# Altium footprint library TerminalBlock_Wuerth.PcbLib: 13 footprints
Each footprint in its own frame and in the unit in brackets; x right, y up, seen from the top. Pads: shape width x height; smd on the part's side, far side on the other; paste and mask are expansions set on the pad; w line width, h text height; cw(c..) or ccw(c..) is an arc to the next point about the centre after c.
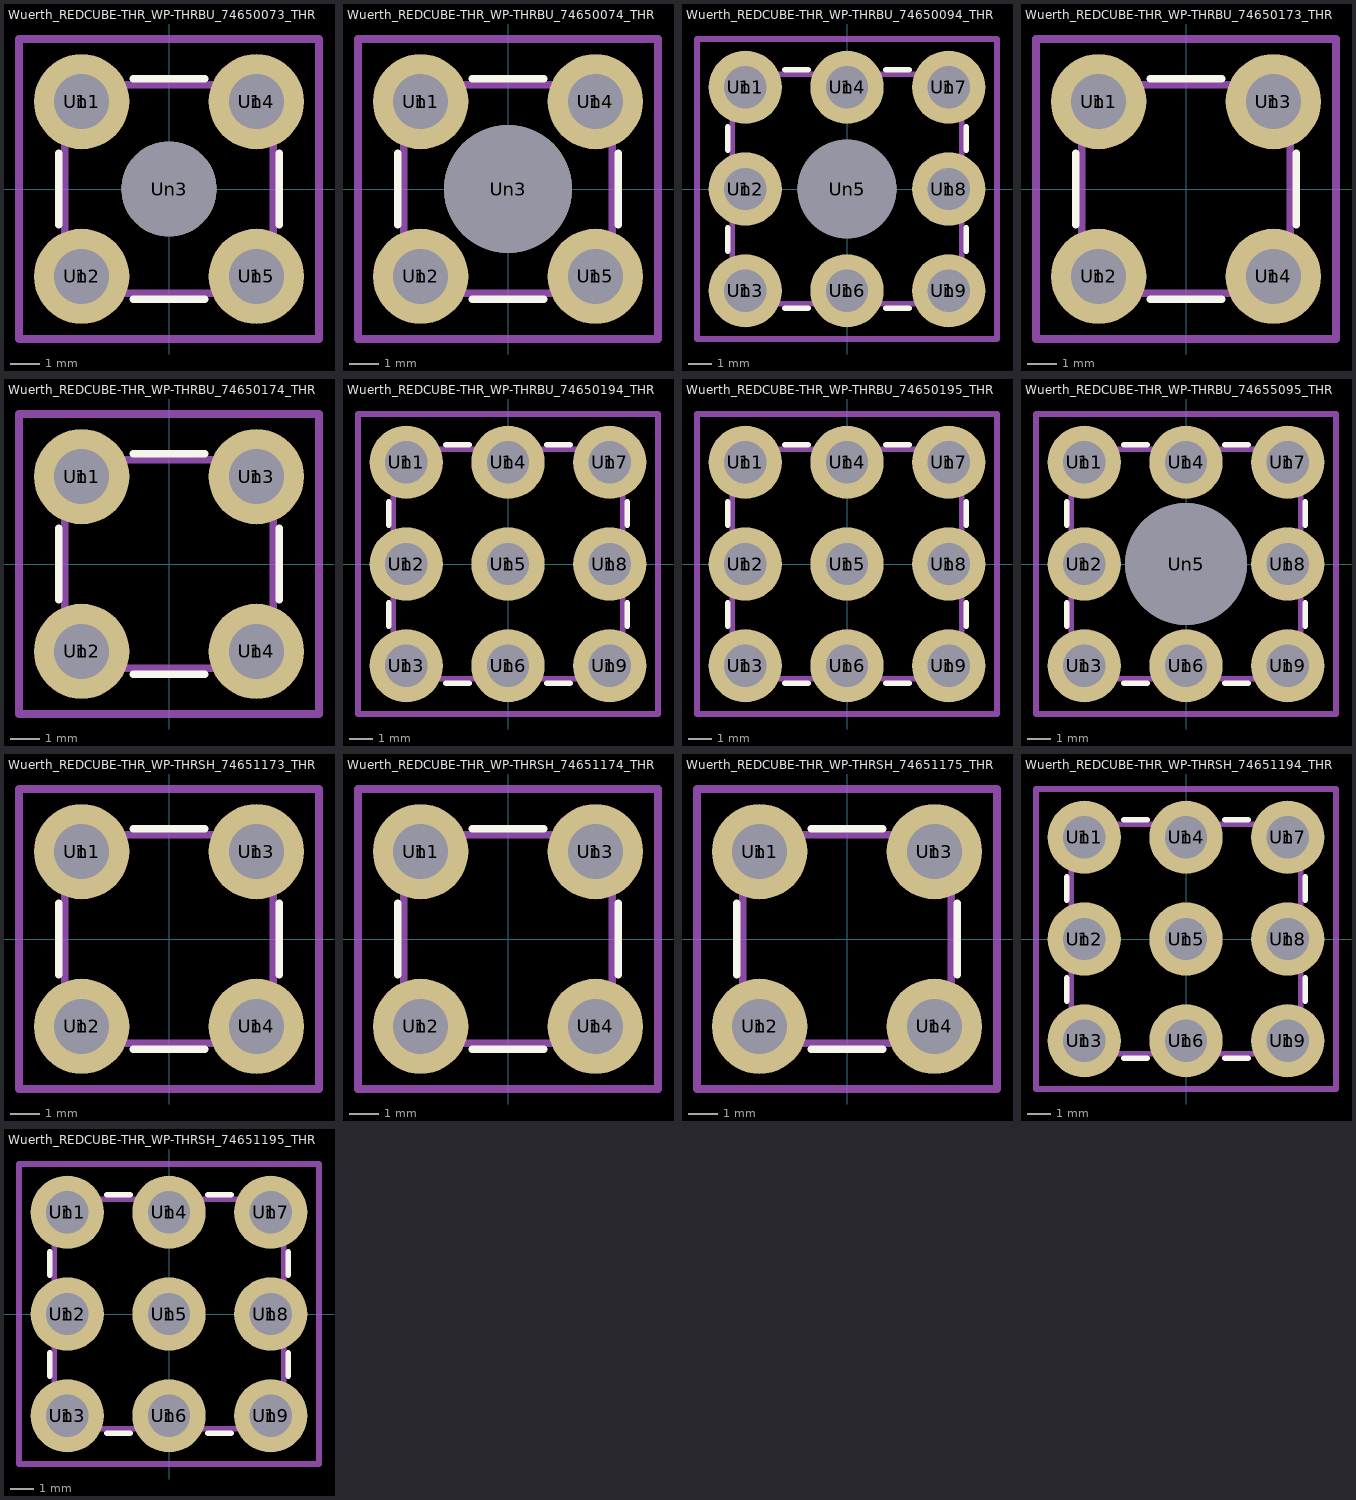
[diagram p0: the footprints below, top view; thin cyan lines are the x and y axes]

## Wuerth_REDCUBE-THR_WP-THRBU_74650073_THR [mm]
pads (9):
  round 3.2 hole 1.85: 1(-2.935,-2.935) 1(-2.935,2.935) 1(2.935,-2.935) 1(2.935,2.935)
  round 3.1 on Top Paste: Un1(-2.935,2.935) Un2(-2.935,-2.935) Un4(2.935,2.935) Un5(2.935,-2.935)
  round 3.2 hole 3.2: Un3(0,0)
F.SilkS:
  lines w0.254: -3.7,-1.2 -3.7,1.2 ; -1.2,-3.7 1.2,-3.7 ; -1.2,3.7 1.2,3.7 ; 3.7,-1.2 3.7,1.2
F.Fab:
  lines w0.254: -3.5,-3.5 -3.5,3.5 3.5,3.5 3.5,-3.5 -3.5,-3.5
  text "'.Designator'" at -4.047,-0.84 h1
F.CrtYd:
  lines w0.254: -5.04,-5.04 -5.04,5.04 5.04,5.04 5.04,-5.04 -5.04,-5.04
3D body "Wuerth_REDCUBE-THR_WP-THRBU_74650073_THR.step": height 3, standoff -2.5, extent -3.5,-3.5 3.5,3.5

## Wuerth_REDCUBE-THR_WP-THRBU_74650074_THR [mm]
pads (9):
  round 3.2 hole 1.85: 1(-2.935,-2.935) 1(-2.935,2.935) 1(2.935,-2.935) 1(2.935,2.935)
  round 3.1 on Top Paste: Un1(-2.935,2.935) Un2(-2.935,-2.935) Un4(2.935,2.935) Un5(2.935,-2.935)
  round 4.3 hole 4.3: Un3(0,0)
F.SilkS:
  lines w0.254: -3.7,-1.2 -3.7,1.2 ; -1.2,-3.7 1.2,-3.7 ; -1.2,3.7 1.2,3.7 ; 3.7,-1.2 3.7,1.2
F.Fab:
  lines w0.254: -3.5,-3.5 -3.5,3.5 3.5,3.5 3.5,-3.5 -3.5,-3.5
  text "'.Designator'" at -4.047,-0.84 h1
F.CrtYd:
  lines w0.254: -5.04,-5.04 -5.04,5.04 5.04,5.04 5.04,-5.04 -5.04,-5.04
3D body "Wuerth_REDCUBE-THR_WP-THRBU_74650074_THR.step": height 3, standoff -2.5, extent -3.5,-3.5 3.5,3.5

## Wuerth_REDCUBE-THR_WP-THRBU_74650094_THR [mm]
pads (17):
  round 3.2 hole 1.85: 1(-4.435,-4.435) 1(-4.435,0) 1(-4.435,4.435) 1(0,-4.435) 1(0,4.435) 1(4.435,-4.435) 1(4.435,0) 1(4.435,4.435)
  round 3.1 on Top Paste: Un1(-4.435,4.435) Un2(-4.435,0) Un3(-4.435,-4.435) Un4(0,4.435) Un6(0,-4.435) Un7(4.435,4.435) Un8(4.435,0) Un9(4.435,-4.435)
  round 4.3 hole 4.3: Un5(0,0)
F.SilkS:
  lines w0.254: -5.2,-2.7 -5.2,-1.7 ; -5.2,1.7 -5.2,2.7 ; -2.7,-5.2 -1.7,-5.2 ; -2.7,5.2 -1.7,5.2 ; 1.7,-5.2 2.7,-5.2 ; 1.7,5.2 2.7,5.2 ; 5.2,-2.7 5.2,-1.7 ; 5.2,1.7 5.2,2.7
F.Fab:
  lines w0.254: -5,-5 -5,5 5,5 5,-5 -5,-5
  text "'.Designator'" at -4.047,-0.84 h1
F.CrtYd:
  lines w0.254: -6.54,-6.54 -6.54,6.54 6.54,6.54 6.54,-6.54 -6.54,-6.54
3D body "Wuerth_REDCUBE-THR_WP-THRBU_74650094_THR.step": height 3.5, standoff -2.5, extent -5,-5 5,5

## Wuerth_REDCUBE-THR_WP-THRBU_74650173_THR [mm]
pads (8):
  round 3.2 hole 1.85: 1(-2.935,-2.935) 1(-2.935,2.935) 1(2.935,-2.935) 1(2.935,2.935)
  round 3.1 on Top Paste: Un1(-2.935,2.935) Un2(-2.935,-2.935) Un3(2.935,2.935) Un4(2.935,-2.935)
F.SilkS:
  lines w0.254: -3.7,-1.2 -3.7,1.2 ; -1.2,-3.7 1.2,-3.7 ; -1.2,3.7 1.2,3.7 ; 3.7,-1.2 3.7,1.2
F.Fab:
  lines w0.254: -3.5,-3.5 -3.5,3.5 3.5,3.5 3.5,-3.5 -3.5,-3.5
  text "'.Designator'" at -4.047,-0.84 h1
F.CrtYd:
  lines w0.254: -5.04,-5.04 -5.04,5.04 5.04,5.04 5.04,-5.04 -5.04,-5.04
3D body "Wuerth_REDCUBE-THR_WP-THRBU_74650173_THR.step": height 6, standoff -2.5, extent -3.5,-3.5 3.5,3.5

## Wuerth_REDCUBE-THR_WP-THRBU_74650174_THR [mm]
pads (8):
  round 3.2 hole 1.85: 1(-2.935,-2.935) 1(-2.935,2.935) 1(2.935,-2.935) 1(2.935,2.935)
  round 3.1 on Top Paste: Un1(-2.935,2.935) Un2(-2.935,-2.935) Un3(2.935,2.935) Un4(2.935,-2.935)
F.SilkS:
  lines w0.254: -3.7,-1.2 -3.7,1.2 ; -1.2,-3.7 1.2,-3.7 ; -1.2,3.7 1.2,3.7 ; 3.7,-1.2 3.7,1.2
F.Fab:
  lines w0.254: -3.5,-3.5 -3.5,3.5 3.5,3.5 3.5,-3.5 -3.5,-3.5
  text "'.Designator'" at -4.047,-0.84 h1
F.CrtYd:
  lines w0.254: -5.04,-5.04 -5.04,5.04 5.04,5.04 5.04,-5.04 -5.04,-5.04
3D body "Wuerth_REDCUBE-THR_WP-THRBU_74650174_THR.step": height 6.5, standoff -2.5, extent -3.5,-3.5 3.5,3.5

## Wuerth_REDCUBE-THR_WP-THRBU_74650194_THR [mm]
pads (18):
  round 3.2 hole 1.85: 1(-4.435,-4.435) 1(-4.435,0) 1(-4.435,4.435) 1(0,-4.435) 1(0,0) 1(0,4.435) 1(4.435,-4.435) 1(4.435,0) 1(4.435,4.435)
  round 3.1 on Top Paste: Un1(-4.435,4.435) Un2(-4.435,0) Un3(-4.435,-4.435) Un4(0,4.435) Un5(0,0) Un6(0,-4.435) Un7(4.435,4.435) Un8(4.435,0) Un9(4.435,-4.435)
F.SilkS:
  lines w0.254: -5.2,-2.7 -5.2,-1.7 ; -5.2,1.7 -5.2,2.7 ; -2.7,-5.2 -1.7,-5.2 ; -2.7,5.2 -1.7,5.2 ; 1.7,-5.2 2.7,-5.2 ; 1.7,5.2 2.7,5.2 ; 5.2,-2.7 5.2,-1.7 ; 5.2,1.7 5.2,2.7
F.Fab:
  lines w0.254: -5,-5 -5,5 5,5 5,-5 -5,-5
  text "'.Designator'" at -4.047,-0.84 h1
F.CrtYd:
  lines w0.254: -6.54,-6.54 -6.54,6.54 6.54,6.54 6.54,-6.54 -6.54,-6.54
3D body "Wuerth_REDCUBE-THR_WP-THRBU_74650194_THR.step": height 7, standoff -2.5, extent -5,-5 5,5

## Wuerth_REDCUBE-THR_WP-THRBU_74650195_THR [mm]
pads (18):
  round 3.2 hole 1.85: 1(-4.435,-4.435) 1(-4.435,0) 1(-4.435,4.435) 1(0,-4.435) 1(0,0) 1(0,4.435) 1(4.435,-4.435) 1(4.435,0) 1(4.435,4.435)
  round 3.1 on Top Paste: Un1(-4.435,4.435) Un2(-4.435,0) Un3(-4.435,-4.435) Un4(0,4.435) Un5(0,0) Un6(0,-4.435) Un7(4.435,4.435) Un8(4.435,0) Un9(4.435,-4.435)
F.SilkS:
  lines w0.254: -5.2,-2.7 -5.2,-1.7 ; -5.2,1.7 -5.2,2.7 ; -2.7,-5.2 -1.7,-5.2 ; -2.7,5.2 -1.7,5.2 ; 1.7,-5.2 2.7,-5.2 ; 1.7,5.2 2.7,5.2 ; 5.2,-2.7 5.2,-1.7 ; 5.2,1.7 5.2,2.7
F.Fab:
  lines w0.254: -5,-5 -5,5 5,5 5,-5 -5,-5
  text "'.Designator'" at -4.047,-0.84 h1
F.CrtYd:
  lines w0.254: -6.54,-6.54 -6.54,6.54 6.54,6.54 6.54,-6.54 -6.54,-6.54
3D body "Wuerth_REDCUBE-THR_WP-THRBU_74650195_THR.step": height 7, standoff -2.5, extent -5,-5 5,5

## Wuerth_REDCUBE-THR_WP-THRBU_74655095_THR [mm]
pads (17):
  round 3.2 hole 1.85: 1(-4.435,-4.435) 1(-4.435,0) 1(-4.435,4.435) 1(0,-4.435) 1(0,4.435) 1(4.435,-4.435) 1(4.435,0) 1(4.435,4.435)
  round 3.1 on Top Paste: Un1(-4.435,4.435) Un2(-4.435,0) Un3(-4.435,-4.435) Un4(0,4.435) Un6(0,-4.435) Un7(4.435,4.435) Un8(4.435,0) Un9(4.435,-4.435)
  round 5.3 hole 5.3: Un5(0,0)
F.SilkS:
  lines w0.254: -5.2,-2.7 -5.2,-1.7 ; -5.2,1.7 -5.2,2.7 ; -2.7,-5.2 -1.7,-5.2 ; -2.7,5.2 -1.7,5.2 ; 1.7,-5.2 2.7,-5.2 ; 1.7,5.2 2.7,5.2 ; 5.2,-2.7 5.2,-1.7 ; 5.2,1.7 5.2,2.7
F.Fab:
  lines w0.254: -5,-5 -5,5 5,5 5,-5 -5,-5
  text "'.Designator'" at -4.047,-0.84 h1
F.CrtYd:
  lines w0.254: -6.54,-6.54 -6.54,6.54 6.54,6.54 6.54,-6.54 -6.54,-6.54
3D body "Wuerth_REDCUBE-THR_WP-THRBU_74655095_THR.step": height 4, standoff -2.5, extent -5,-5 5,5

## Wuerth_REDCUBE-THR_WP-THRSH_74651173_THR [mm]
pads (8):
  round 3.2 hole 1.85: 1(-2.935,-2.935) 1(-2.935,2.935) 1(2.935,-2.935) 1(2.935,2.935)
  round 3.1 on Top Paste: Un1(-2.935,2.935) Un2(-2.935,-2.935) Un3(2.935,2.935) Un4(2.935,-2.935)
F.SilkS:
  lines w0.254: -3.7,-1.2 -3.7,1.2 ; -1.2,-3.7 1.2,-3.7 ; -1.2,3.7 1.2,3.7 ; 3.7,-1.2 3.7,1.2
F.Fab:
  lines w0.254: -3.5,-3.5 -3.5,3.5 3.5,3.5 3.5,-3.5 -3.5,-3.5
  text "'.Designator'" at -4.047,-0.84 h1
F.CrtYd:
  lines w0.254: -5.04,-5.04 -5.04,5.04 5.04,5.04 5.04,-5.04 -5.04,-5.04
3D body "Wuerth_REDCUBE-THR_WP-THRSH_74651173_THR.step": height 8.5, standoff -2.5, extent -3.5,-3.5 3.5,3.5

## Wuerth_REDCUBE-THR_WP-THRSH_74651174_THR [mm]
pads (8):
  round 3.2 hole 1.85: 1(-2.935,-2.935) 1(-2.935,2.935) 1(2.935,-2.935) 1(2.935,2.935)
  round 3.1 on Top Paste: Un1(-2.935,2.935) Un2(-2.935,-2.935) Un3(2.935,2.935) Un4(2.935,-2.935)
F.SilkS:
  lines w0.254: -3.7,-1.2 -3.7,1.2 ; -1.2,-3.7 1.2,-3.7 ; -1.2,3.7 1.2,3.7 ; 3.7,-1.2 3.7,1.2
F.Fab:
  lines w0.254: -3.5,-3.5 -3.5,3.5 3.5,3.5 3.5,-3.5 -3.5,-3.5
  text "'.Designator'" at -4.047,-0.84 h1
F.CrtYd:
  lines w0.254: -5.04,-5.04 -5.04,5.04 5.04,5.04 5.04,-5.04 -5.04,-5.04
3D body "Wuerth_REDCUBE-THR_WP-THRSH_74651174_THR.step": height 8.5, standoff -2.5, extent -3.5,-3.5 3.5,3.5

## Wuerth_REDCUBE-THR_WP-THRSH_74651175_THR [mm]
pads (8):
  round 3.2 hole 1.85: 1(-2.935,-2.935) 1(-2.935,2.935) 1(2.935,-2.935) 1(2.935,2.935)
  round 3.1 on Top Paste: Un1(-2.935,2.935) Un2(-2.935,-2.935) Un3(2.935,2.935) Un4(2.935,-2.935)
F.SilkS:
  lines w0.254: -3.7,-1.2 -3.7,1.2 ; -1.2,-3.7 1.2,-3.7 ; -1.2,3.7 1.2,3.7 ; 3.7,-1.2 3.7,1.2
F.Fab:
  lines w0.254: -3.5,-3.5 -3.5,3.5 3.5,3.5 3.5,-3.5 -3.5,-3.5
  text "'.Designator'" at -4.047,-0.84 h1
F.CrtYd:
  lines w0.254: -5.04,-5.04 -5.04,5.04 5.04,5.04 5.04,-5.04 -5.04,-5.04
3D body "Wuerth_REDCUBE-THR_WP-THRSH_74651175_THR.step": height 10.5, standoff -2.5, extent -3.5,-3.5 3.5,3.5

## Wuerth_REDCUBE-THR_WP-THRSH_74651194_THR [mm]
pads (18):
  round 3.2 hole 1.85: 1(-4.435,-4.435) 1(-4.435,0) 1(-4.435,4.435) 1(0,-4.435) 1(0,0) 1(0,4.435) 1(4.435,-4.435) 1(4.435,0) 1(4.435,4.435)
  round 3.1 on Top Paste: Un1(-4.435,4.435) Un2(-4.435,0) Un3(-4.435,-4.435) Un4(0,4.435) Un5(0,0) Un6(0,-4.435) Un7(4.435,4.435) Un8(4.435,0) Un9(4.435,-4.435)
F.SilkS:
  lines w0.254: -5.2,-2.7 -5.2,-1.7 ; -5.2,1.7 -5.2,2.7 ; -2.7,-5.2 -1.7,-5.2 ; -2.7,5.2 -1.7,5.2 ; 1.7,-5.2 2.7,-5.2 ; 1.7,5.2 2.7,5.2 ; 5.2,-2.7 5.2,-1.7 ; 5.2,1.7 5.2,2.7
F.Fab:
  lines w0.254: -5,-5 -5,5 5,5 5,-5 -5,-5
  text "'.Designator'" at -4.047,-0.84 h1
F.CrtYd:
  lines w0.254: -6.54,-6.54 -6.54,6.54 6.54,6.54 6.54,-6.54 -6.54,-6.54
3D body "Wuerth_REDCUBE-THR_WP-THRSH_74651194_THR.step": height 8.5, standoff -2.5, extent -5,-5 5,5

## Wuerth_REDCUBE-THR_WP-THRSH_74651195_THR [mm]
pads (18):
  round 3.2 hole 1.85: 1(-4.435,-4.435) 1(-4.435,0) 1(-4.435,4.435) 1(0,-4.435) 1(0,0) 1(0,4.435) 1(4.435,-4.435) 1(4.435,0) 1(4.435,4.435)
  round 3.1 on Top Paste: Un1(-4.435,4.435) Un2(-4.435,0) Un3(-4.435,-4.435) Un4(0,4.435) Un5(0,0) Un6(0,-4.435) Un7(4.435,4.435) Un8(4.435,0) Un9(4.435,-4.435)
F.SilkS:
  lines w0.254: -5.2,-2.7 -5.2,-1.7 ; -5.2,1.7 -5.2,2.7 ; -2.7,-5.2 -1.7,-5.2 ; -2.7,5.2 -1.7,5.2 ; 1.7,-5.2 2.7,-5.2 ; 1.7,5.2 2.7,5.2 ; 5.2,-2.7 5.2,-1.7 ; 5.2,1.7 5.2,2.7
F.Fab:
  lines w0.254: -5,-5 5,-5 5,5 -5,5 -5,-5
  text "'.Designator'" at -4.047,-0.84 h1
F.CrtYd:
  lines w0.254: -6.54,-6.54 6.54,-6.54 6.54,6.54 -6.54,6.54 -6.54,-6.54
3D body "Wuerth_REDCUBE-THR_WP-THRSH_74651195_THR.step": height 10.5, standoff -2.5, extent -5,-5 5,5